# Altium footprint library конденсаторы.PcbLib: 48 footprints (part 3 of 3)
Each footprint in its own frame and in the unit in brackets; x right, y up, seen from the top. Pads: shape width x height; smd on the part's side, far side on the other; paste and mask are expansions set on the pad; w line width, h text height; cw(c..) or ccw(c..) is an arc to the next point about the centre after c.
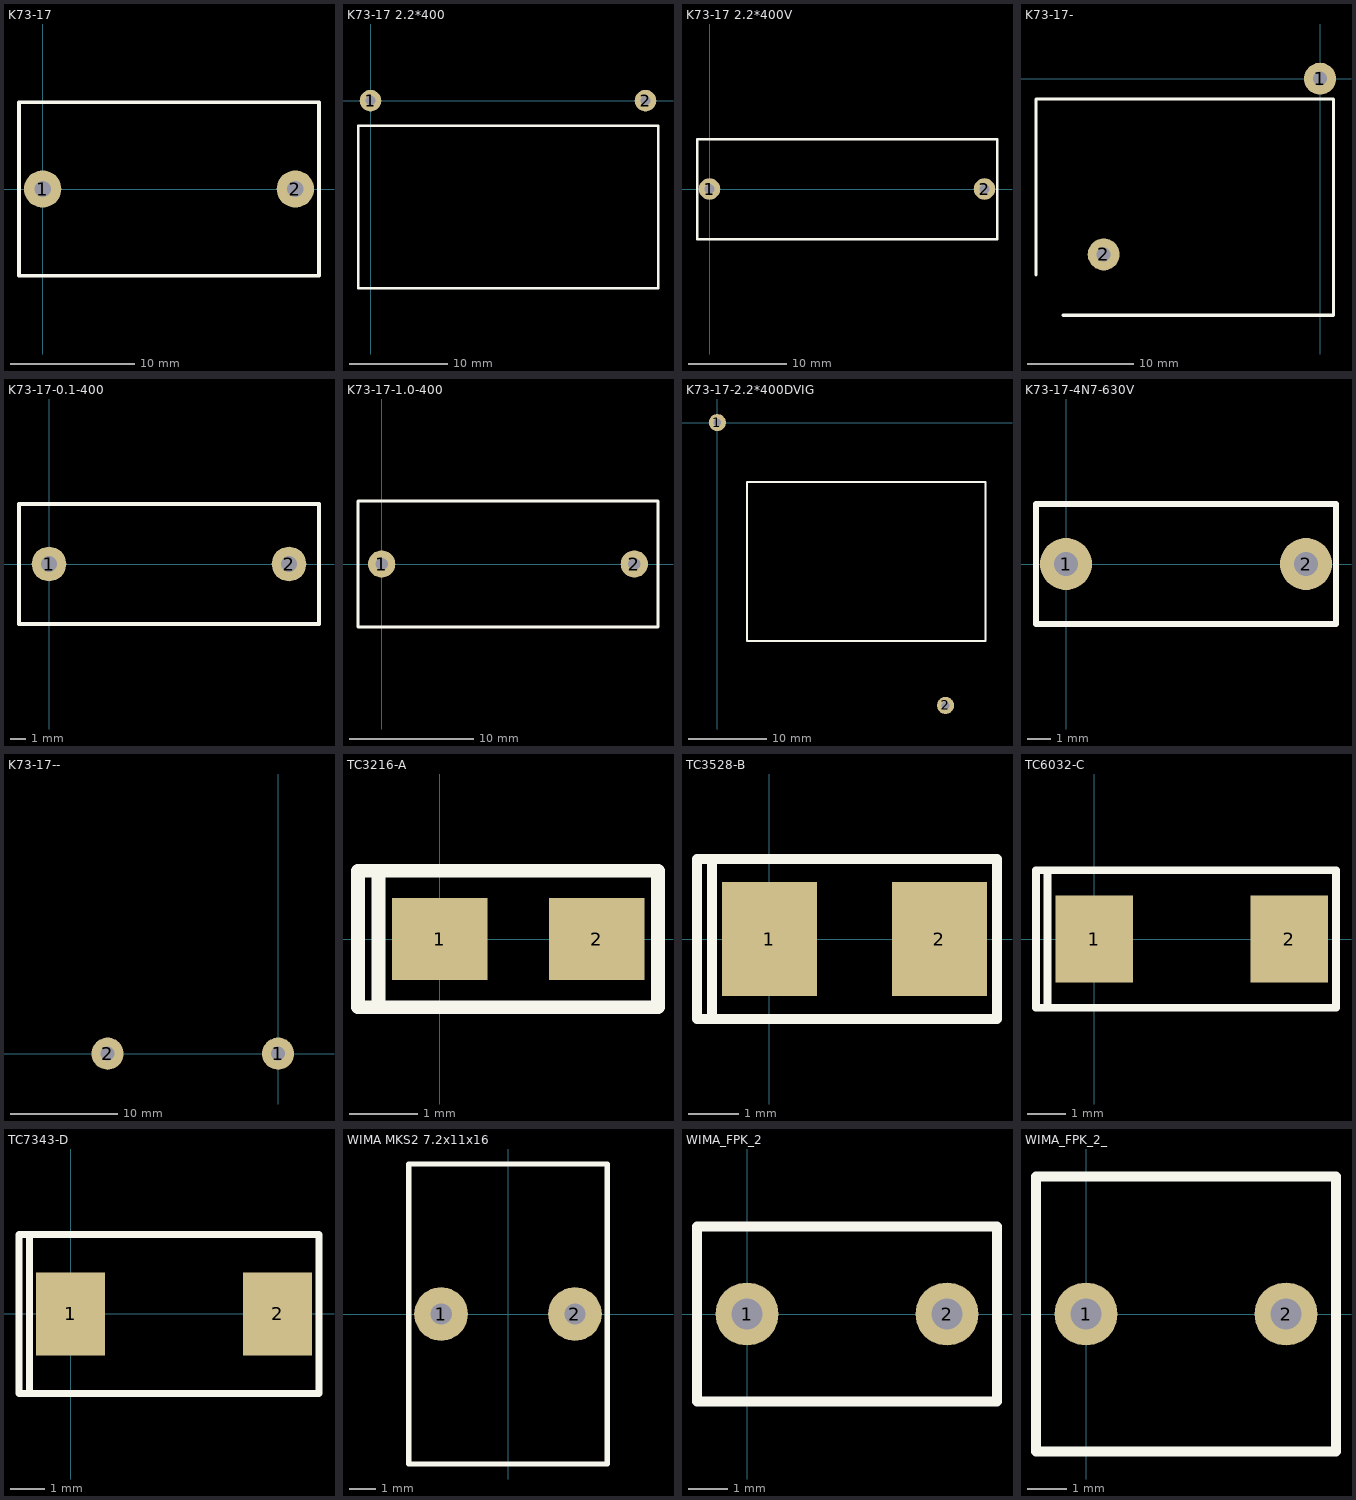
[diagram p2: the footprints below, top view; thin cyan lines are the x and y axes]

## K73-17 [mm]
pads (2):
  round 3 hole 1.3: 1(0,0) 2(20.32,0)
Top Overlay:
  lines w0.3: -1.905,-6.985 22.225,-6.985 22.225,6.985 -1.905,6.985 -1.905,-6.985

## K73-17 2.2*400 [mm]
pads (2):
  round 2.2 hole 1: 1(0,0) 2(27.94,0)
Top Overlay:
  lines w0.254: -1.27,-19.05 29.21,-19.05 29.21,-2.54 -1.27,-2.54 -1.27,-19.05

## K73-17 2.2*400V [mm]
pads (2):
  round 2.2 hole 1: 1(0,0) 2(27.94,0)
Top Overlay:
  lines w0.254: -1.27,-5.08 29.21,-5.08 29.21,5.08 -1.27,5.08 -1.27,-5.08

## K73-17- [mm]
pads (2):
  round 3 hole 1.3: 1(0,0) 2(-20.32,-16.51)
Top Overlay:
  lines w0.3: -26.67,-18.415 -26.67,-1.905 1.27,-1.905 1.27,-22.225 -24.13,-22.225

## K73-17-0.1-400 [mm]
pads (2):
  round 2.2 hole 1: 1(0,0) 2(15.24,0)
Top Overlay:
  lines w0.254: -1.905,-3.81 17.145,-3.81 17.145,3.81 -1.905,3.81 -1.905,-3.81

## K73-17-1.0-400 [mm]
pads (2):
  round 2.2 hole 1: 1(0,0) 2(20.32,0)
Top Overlay:
  lines w0.254: -1.905,-5.08 -1.905,5.08 22.225,5.08 22.225,-5.08 -1.905,-5.08

## K73-17-2.2*400DVIG [mm]
pads (2):
  round 2.2 hole 1: 1(0,0) 2(29.21,-36.195)
Top Overlay:
  lines w0.254: 3.81,-27.94 3.81,-7.62 34.29,-7.62 34.29,-27.94 3.81,-27.94

## K73-17-4N7-630V [mm]
pads (2):
  round 2.2 hole 1: 1(0,0) 2(10.16,0)
Top Overlay:
  lines w0.254: -1.27,-2.54 -1.27,2.54 11.43,2.54 11.43,-2.54 -1.27,-2.54

## K73-17-- [mm]
pads (2):
  round 3 hole 1.3: 1(0,0) 2(-15.875,0)
Bottom Overlay:
  lines w0.3: -24.13,2.54 -24.13,22.86 3.81,22.86 3.81,2.54 -24.13,2.54

## TC3216-A [mm]
pads (2):
  rect 1.4x1.2 smd mask+0.025: 1(0,0) 2(2.3,0)
Top Overlay:
  lines w0.2: -0.9,-1 -0.9,1 ; -1.2,-1 3.2,-1 3.2,1 -1.2,1 -1.2,-1
3D body "User Library-CAP_TANT_3216-18_A_case-1.SLDPRT": height 1.7, standoff 0, extent -0.55,-0.9 2.85,0.9

## TC3528-B [mm]
pads (2):
  rect 1.9x2.28 smd mask+0.025: 1(0,0) 2(3.4,0)
Top Overlay:
  lines w0.2: -1.15,-1.6 -1.15,1.6 ; -1.45,-1.6 -1.45,1.6 4.55,1.6 4.55,-1.6 -1.45,-1.6
3D body "User Library-AVX_BCASE.SLDPRT": height 2.03, standoff 0, extent -0.15,-1.465 3.55,1.465

## TC6032-C [mm]
pads (2):
  rect 2.03x2.28 smd mask+0.025: 1(0,0) 2(5.1,0)
Top Overlay:
  lines w0.2: -1.225,-1.8 -1.225,1.8 ; -1.525,-1.8 6.325,-1.8 6.325,1.8 -1.525,1.8 -1.525,-1.8
3D body "User Library-AVX_C_CASE.SLDPRT": height 2.7, standoff 0, extent -0.45,-1.675 5.65,1.675

## TC7343-D [mm]
pads (2):
  rect 2x2.4 smd mask+0.025: 1(0,0) 2(6,0)
Top Overlay:
  lines w0.2: -1.2,-2.3 -1.2,2.3 ; -1.5,-2.3 -1.5,2.3 7.2,2.3 7.2,-2.3 -1.5,-2.3
3D body "User Library-AVX_D_CASE.SLDPRT": height 3.01, standoff 0, extent -0.7,-2.225 6.7,2.225

## WIMA MKS2 7.2x11x16 [mm] "MKS2B051001N00KSSD L=7.2 W=11 H=16"
height 16
pads (2):
  round 2 hole 0.8: 1(-2.5,0) 2(2.5,0)
Top Overlay:
  lines w0.2: -3.7,-5.6 -3.7,5.6 3.7,5.6 3.7,-5.6 -3.7,-5.6
3D body "User Library-MKS2_11_16_7_2.SLDPRT": height 16, standoff -6, extent -3.6,-5.5 3.6,5.5

## WIMA_FPK_2 [mm]
pads (2):
  round 1.6 hole 0.8: 1(0,0) 2(5.08,0)
Top Overlay:
  lines w0.254: -1.27,-2.222 -1.27,2.222 6.35,2.222 6.35,-2.222 -1.27,-2.222
3D body "User Library-FKP2 100pF-100 FKP2D001001D00.SLDPRT": height 6, standoff -4, extent -1.06,-2.25 6.14,2.26

## WIMA_FPK_2_ [mm]
pads (2):
  round 1.6 hole 0.8: 1(0,0) 2(5.08,0)
Top Overlay:
  lines w0.254: -1.27,-3.492 -1.27,3.492 6.35,3.492 6.35,-3.492 -1.27,-3.492